# Altium schematic symbol library project_specific.SchLib: 1 symbol
Pins are listed as number, name and electrical type; pins without a type are passive.

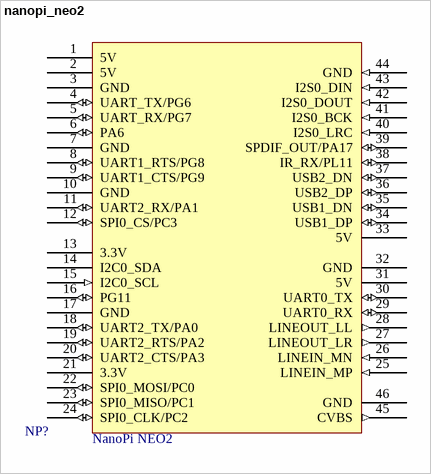
[diagram p0: symbol nanopi_neo2]

## nanopi_neo2
designator NP?  (value not drawn)
Flipped NanoPi NEO2 dock
footprint nanopi_neo2_dock
pins: 1 5V (power), 2 5V (power), 3 GND (power), 4 UART_TX/PG6 (io), 5 UART_RX/PG7 (io), 6 PA6 (io), 7 GND (power), 8 UART1_RTS/PG8 (io), 9 UART1_CTS/PG9 (io), 10 GND (power), 11 UART2_RX/PA1 (io), 12 SPI0_CS/PC3 (io), 13 3.3V (power), 14 I2C0_SDA (oc), 15 I2C0_SCL (in), 16 PG11 (io), 17 GND (power), 18 UART2_TX/PA0 (io), 19 UART2_RTS/PA2 (io), 20 UART2_CTS/PA3 (io), 21 3.3V (power), 22 SPI0_MOSI/PC0 (io), 23 SPI0_MISO/PC1 (io), 24 SPI0_CLK/PC2 (io), 25 LINEIN_MP (in), 26 LINEIN_MN (in), 27 LINEOUT_LR (out), 28 LINEOUT_LL (out), 29 UART0_RX (io), 30 UART0_TX (io), 31 5V (power), 32 GND (power), 33 5V (power), 34 USB1_DP (io), 35 USB1_DN (io), 36 USB2_DP (io), 37 USB2_DN (io), 38 IR_RX/PL11 (io), 39 SPDIF_OUT/PA17 (io), 40 I2S0_LRC (in), 41 I2S0_BCK (in), 42 I2S0_DOUT (in), 43 I2S0_DIN (in), 44 GND (in), 45 CVBS (out), 46 GND (power)
text: NanoPi NEO2